# Altium footprint library gpa_passives.PcbLib: 24 footprints (part 2 of 2)
Each footprint in its own frame and in the unit in brackets; x right, y up, seen from the top. Pads: shape width x height; smd on the part's side, far side on the other; paste and mask are expansions set on the pad; w line width, h text height; cw(c..) or ccw(c..) is an arc to the next point about the centre after c.
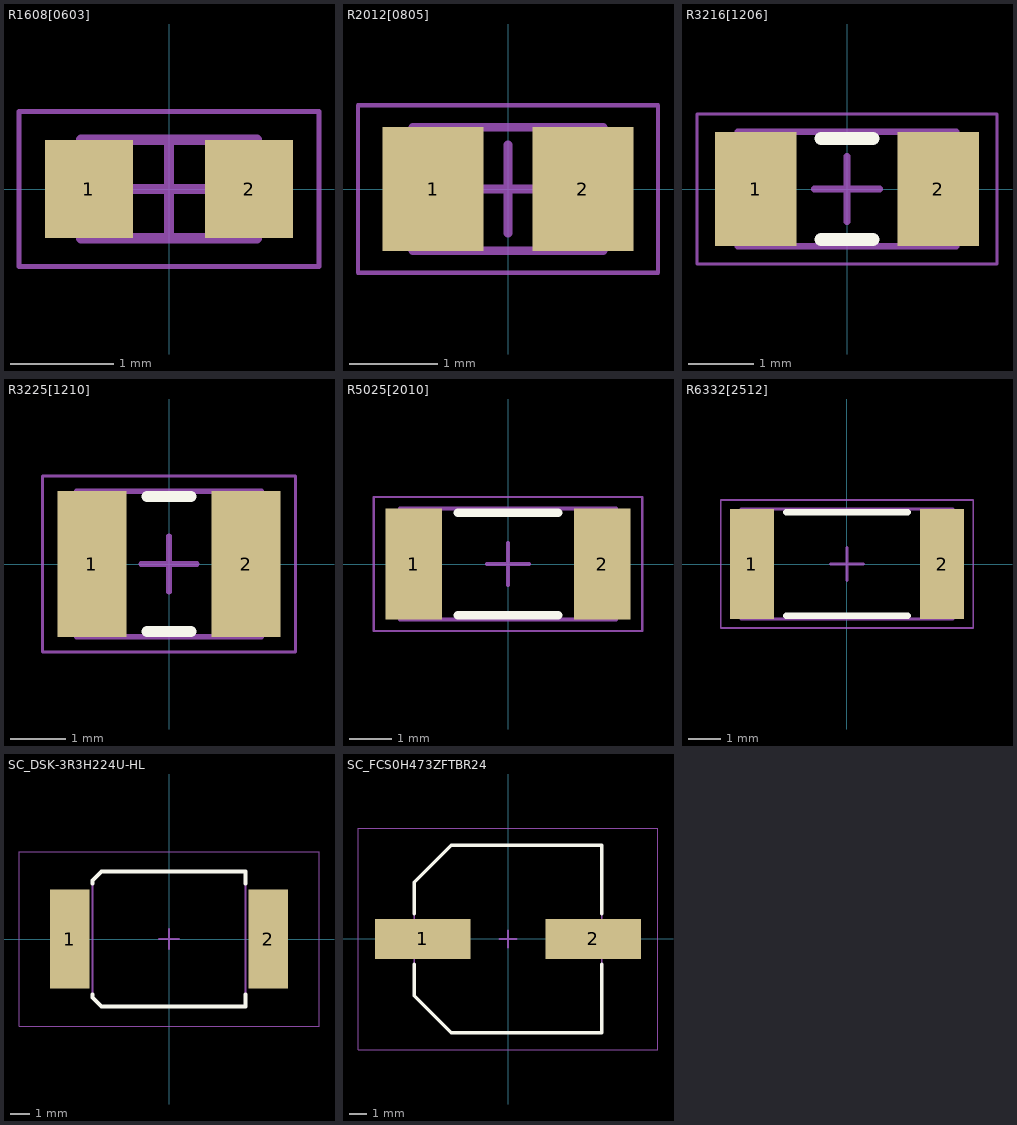
[diagram p1: the footprints below, top view; thin cyan lines are the x and y axes]

## R1608[0603] [mm] "1608[0603]"
height 0.6
pads (2):
  rect 0.85x0.95 smd: 1(-0.775,0) 2(0.775,0)
Mechanical 13:
  lines w0.1: -0.85,-0.475 0.85,-0.475 0.85,0.475 -0.85,0.475 -0.85,-0.475
Mechanical 15:
  lines w0.05: -1.45,-0.75 1.45,-0.75 1.45,0.75 -1.45,0.75 -1.45,-0.75
  lines w0.1: -0.475,0 0.475,0 ; 0,-0.475 0,0.475
3D body: height 0.6, standoff 0, extent 0.57,-0.475 0.85,0.475
3D body: height 0.6, standoff 0, extent -0.85,-0.475 -0.57,0.475
3D body: height 0.6, standoff 0, extent -0.57,-0.475 0.57,0.475

## R2012[0805] [mm] "2012[0805]"
height 0.65
pads (2):
  rect 1.15x1.4 smd: 1(-0.85,0) 2(0.85,0)
Mechanical 13:
  lines w0.1: -1.075,-0.7 1.075,-0.7 1.075,0.7 -1.075,0.7 -1.075,-0.7
Mechanical 15:
  lines w0.05: -1.7,-0.95 1.7,-0.95 1.7,0.95 -1.7,0.95 -1.7,-0.95
  lines w0.1: -0.5,0 0.5,0 ; 0,-0.5 0,0.5
3D body: height 0.65, standoff 0, extent 0.675,-0.7 1.075,0.7
3D body: height 0.65, standoff 0, extent -1.075,-0.7 -0.675,0.7
3D body: height 0.65, standoff 0, extent -0.675,-0.7 0.675,0.7

## R3216[1206] [mm] "3216[1206]"
height 0.71
pads (2):
  rect 1.25x1.75 smd: 1(-1.4,0) 2(1.4,0)
Top Overlay:
  lines w0.2: -0.4,-0.775 0.4,-0.775 ; -0.4,0.775 0.4,0.775
Mechanical 13:
  lines w0.1: -1.675,-0.875 1.675,-0.875 1.675,0.875 -1.675,0.875 -1.675,-0.875
Mechanical 15:
  lines w0.05: -2.3,-1.15 2.3,-1.15 2.3,1.15 -2.3,1.15 -2.3,-1.15
  lines w0.1: -0.5,0 0.5,0 ; 0,-0.5 0,0.5
3D body: height 0.71, standoff 0, extent 1.175,-0.875 1.675,0.875
3D body: height 0.71, standoff 0, extent -1.675,-0.875 -1.175,0.875
3D body: height 0.71, standoff 0, extent -1.175,-0.875 1.175,0.875

## R3225[1210] [mm] "3225[1210]"
height 0.71
pads (2):
  rect 1.25x2.65 smd: 1(-1.4,0) 2(1.4,0)
Top Overlay:
  lines w0.2: -0.4,-1.225 0.4,-1.225 ; -0.4,1.225 0.4,1.225
Mechanical 13:
  lines w0.1: -1.675,-1.32 -1.675,1.32 1.675,1.32 1.675,-1.32 -1.675,-1.32
Mechanical 15:
  lines w0.05: -2.3,-1.6 -2.3,1.6 2.3,1.6 2.3,-1.6 -2.3,-1.6
  lines w0.1: -0.5,0 0.5,0 ; 0,-0.5 0,0.5
3D body: height 0.71, standoff 0, extent -1.175,-1.32 1.175,1.32
3D body: height 0.71, standoff 0, extent -1.675,-1.32 -1.175,1.32
3D body: height 0.71, standoff 0, extent 1.175,-1.32 1.675,1.32

## R5025[2010] [mm] "5025[2010]"
height 0.71
pads (2):
  rect 1.35x2.65 smd: 1(-2.25,0) 2(2.25,0)
Top Overlay:
  lines w0.2: -1.2,-1.225 1.2,-1.225 ; -1.2,1.225 1.2,1.225
Mechanical 13:
  lines w0.1: -2.575,-1.325 -2.575,1.325 2.575,1.325 2.575,-1.325 -2.575,-1.325
Mechanical 15:
  lines w0.05: -3.2,-1.6 -3.2,1.6 3.2,1.6 3.2,-1.6 -3.2,-1.6
  lines w0.1: -0.5,0 0.5,0 ; 0,-0.5 0,0.5
3D body: height 0.71, standoff 0, extent -1.975,-1.325 1.975,1.325
3D body: height 0.71, standoff 0, extent -2.575,-1.325 -1.975,1.325
3D body: height 0.71, standoff 0, extent 1.975,-1.325 2.575,1.325

## R6332[2512] [mm] "6332[2512]"
height 0.71
pads (2):
  rect 1.35x3.35 smd: 1(-2.9,0) 2(2.9,0)
Top Overlay:
  lines w0.2: -1.85,-1.575 1.85,-1.575 ; -1.85,1.575 1.85,1.575
Mechanical 13:
  lines w0.1: -3.225,-1.675 -3.225,1.675 3.225,1.675 3.225,-1.675 -3.225,-1.675
Mechanical 15:
  lines w0.05: -3.85,-1.95 -3.85,1.95 3.85,1.95 3.85,-1.95 -3.85,-1.95
  lines w0.1: -0.5,0 0.5,0 ; 0,-0.5 0,0.5
3D body: height 0.71, standoff 0, extent -2.625,-1.675 2.625,1.675
3D body: height 0.71, standoff 0, extent -3.225,-1.675 -2.625,1.675
3D body: height 0.71, standoff 0, extent 2.625,-1.675 3.225,1.675

## SC_DSK-3R3H224U-HL [mm] "Aluminum Electrolytic Capacitor, Body 7.70x6.80x3.00mm, IPC Low Density"
height 3
pads (2):
  rect 2x5 smd: 1(-5,0) 2(5,0)
Top Overlay:
  lines w0.2: -3.85,-2.8 -3.85,-2.95 -3.4,-3.4 3.85,-3.4 3.85,-2.8 ; -3.85,2.8 -3.85,2.95 -3.4,3.4 3.85,3.4 3.85,2.8
Mechanical 13:
  lines w0.1: -3.85,-2.95 -3.85,2.95 -3.4,3.4 3.85,3.4 3.85,-3.4 -3.4,-3.4 -3.85,-2.95
Mechanical 15:
  lines w0.05: -7.55,-4.4 7.55,-4.4 7.55,4.4 -7.55,4.4 -7.55,-4.4
  lines w0.1: -0.5,0 0.5,0 ; 0,-0.5 0,0.5
3D body: height 3.5, standoff 0.5, extent -3.4,-3.4 3.4,3.4

## SC_FCS0H473ZFTBR24 [mm] "Aluminum Electrolytic Capacitor, Body 10.80x10.80x5.50mm, IPC Low Density"
height 5.5
pads (2):
  rect 5.6x2.35 smd: 1(-5,0) 2(5,0)
Top Overlay:
  lines w0.2: -5.5,-1.475 -5.5,-3.338 -3.337,-5.5 5.5,-5.5 5.5,-1.475 ; -5.5,1.475 -5.5,3.337 -3.337,5.5 5.5,5.5 5.5,1.475
Mechanical 13:
  lines w0.1: -5.5,-3.338 -3.337,-5.5 5.5,-5.5 5.5,5.5 -3.337,5.5 -5.5,3.337 -5.5,-3.338
Mechanical 15:
  lines w0.05: -8.8,-6.5 -8.8,6.5 8.8,6.5 8.8,-6.5 -8.8,-6.5
  lines w0.1: -0.5,0 0.5,0 ; 0,-0.5 0,0.5
3D body "FCS0H473ZFTBR24.step": height 5.5, standoff -5.2, extent -6.5,-5.5 6.5,5.5